# Altium schematic symbol library SCH - MCU - NUVOTON - NUVOTON ML51LD1AE.SchLib: 1 symbol
Pins are listed as number, name and electrical type; pins without a type are passive.

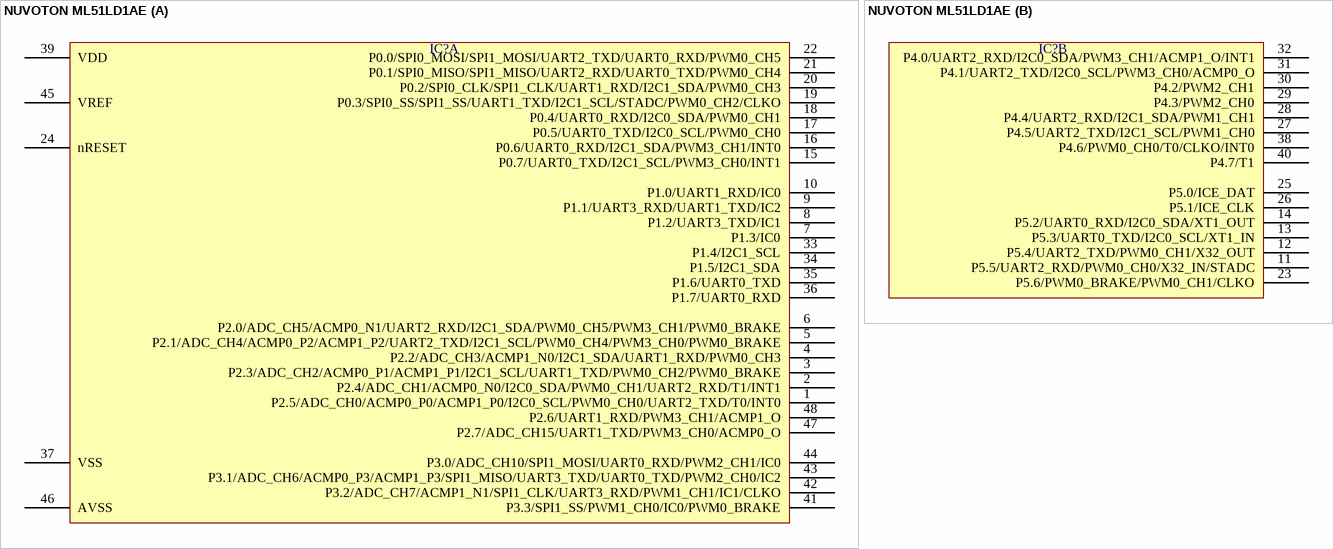
[diagram p0: symbol NUVOTON ML51LD1AE]

## NUVOTON ML51LD1AE
designator IC?  (value not drawn)
part A pins: 1 P2.5/ADC_CH0/ACMP0_P0/ACMP1_P0/I2C0_SCL/PWM0_CH0/UART2_TXD/T0/INT0, 2 P2.4/ADC_CH1/ACMP0_N0/I2C0_SDA/PWM0_CH1/UART2_RXD/T1/INT1, 3 P2.3/ADC_CH2/ACMP0_P1/ACMP1_P1/I2C1_SCL/UART1_TXD/PWM0_CH2/PWM0_BRAKE, 4 P2.2/ADC_CH3/ACMP1_N0/I2C1_SDA/UART1_RXD/PWM0_CH3, 5 P2.1/ADC_CH4/ACMP0_P2/ACMP1_P2/UART2_TXD/I2C1_SCL/PWM0_CH4/PWM3_CH0/PWM0_BRAKE, 6 P2.0/ADC_CH5/ACMP0_N1/UART2_RXD/I2C1_SDA/PWM0_CH5/PWM3_CH1/PWM0_BRAKE, 7 P1.3/IC0, 8 P1.2/UART3_TXD/IC1, 9 P1.1/UART3_RXD/UART1_TXD/IC2, 10 P1.0/UART1_RXD/IC0, 15 P0.7/UART0_TXD/I2C1_SCL/PWM3_CH0/INT1, 16 P0.6/UART0_RXD/I2C1_SDA/PWM3_CH1/INT0, 17 P0.5/UART0_TXD/I2C0_SCL/PWM0_CH0, 18 P0.4/UART0_RXD/I2C0_SDA/PWM0_CH1, 19 P0.3/SPI0_SS/SPI1_SS/UART1_TXD/I2C1_SCL/STADC/PWM0_CH2/CLKO, 20 P0.2/SPI0_CLK/SPI1_CLK/UART1_RXD/I2C1_SDA/PWM0_CH3, 21 P0.1/SPI0_MISO/SPI1_MISO/UART2_RXD/UART0_TXD/PWM0_CH4, 22 P0.0/SPI0_MOSI/SPI1_MOSI/UART2_TXD/UART0_RXD/PWM0_CH5, 24 nRESET, 33 P1.4/I2C1_SCL, 34 P1.5/I2C1_SDA, 35 P1.6/UART0_TXD, 36 P1.7/UART0_RXD, 37 VSS, 39 VDD, 41 P3.3/SPI1_SS/PWM1_CH0/IC0/PWM0_BRAKE, 42 P3.2/ADC_CH7/ACMP1_N1/SPI1_CLK/UART3_RXD/PWM1_CH1/IC1/CLKO, 43 P3.1/ADC_CH6/ACMP0_P3/ACMP1_P3/SPI1_MISO/UART3_TXD/UART0_TXD/PWM2_CH0/IC2, 44 P3.0/ADC_CH10/SPI1_MOSI/UART0_RXD/PWM2_CH1/IC0, 45 VREF, 46 AVSS, 47 P2.7/ADC_CH15/UART1_TXD/PWM3_CH0/ACMP0_O, 48 P2.6/UART1_RXD/PWM3_CH1/ACMP1_O
part B pins: 11 P5.5/UART2_RXD/PWM0_CH0/X32_IN/STADC, 12 P5.4/UART2_TXD/PWM0_CH1/X32_OUT, 13 P5.3/UART0_TXD/I2C0_SCL/XT1_IN, 14 P5.2/UART0_RXD/I2C0_SDA/XT1_OUT, 23 P5.6/PWM0_BRAKE/PWM0_CH1/CLKO, 25 P5.0/ICE_DAT, 26 P5.1/ICE_CLK, 27 P4.5/UART2_TXD/I2C1_SCL/PWM1_CH0, 28 P4.4/UART2_RXD/I2C1_SDA/PWM1_CH1, 29 P4.3/PWM2_CH0, 30 P4.2/PWM2_CH1, 31 P4.1/UART2_TXD/I2C0_SCL/PWM3_CH0/ACMP0_O, 32 P4.0/UART2_RXD/I2C0_SDA/PWM3_CH1/ACMP1_O/INT1, 38 P4.6/PWM0_CH0/T0/CLKO/INT0, 40 P4.7/T1